# EAGLE library part SIM900 (library sim900R)
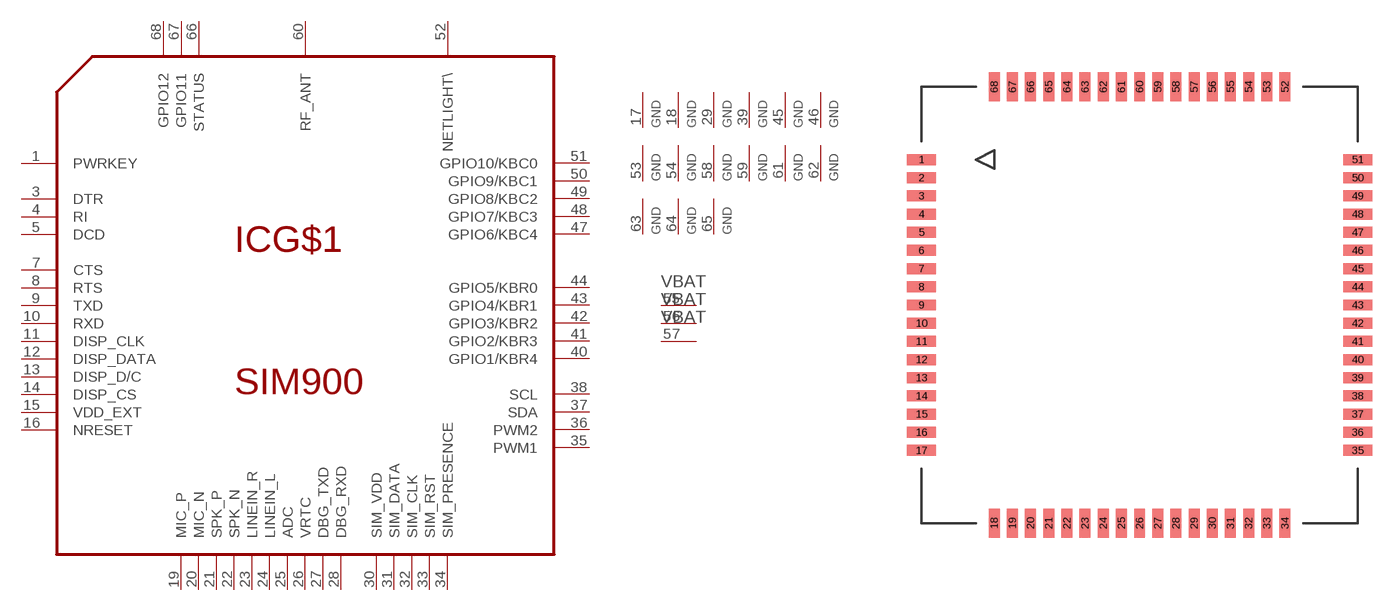
[diagram p0: symbol with the pads of SIM900; footprint SIM900]

Designator prefix IC; gates G$1=SIM900 GND@1=GND GND@2=GND GND@3=GND GND@4=GND GND@5=GND GND@6=GND GND@7=GND GND@8=GND GND@9=GND GND@10=GND GND@11=GND GND@12=GND GND@13=GND GND@14=GND GND@15=GND VBAT@1=VBAT VBAT@2=VBAT VBAT@3=VBAT

## SIM900  [SIM900]
1  G$1:PWRKEY
3  G$1:DTR
4  G$1:RI
5  G$1:DCD
7  G$1:CTS
8  G$1:RTS
9  G$1:TXD
10  G$1:RXD
11  G$1:DISP_CLK
12  G$1:DISP_DATA
13  G$1:DISP_D/C
14  G$1:DISP_CS
15  G$1:VDD_EXT
16  G$1:NRESET
17  GND@1:GND  pwr
18  GND@2:GND  pwr
19  G$1:MIC_P
20  G$1:MIC_N
21  G$1:SPK_P
22  G$1:SPK_N
23  G$1:LINEIN_R
24  G$1:LINEIN_L
25  G$1:ADC
26  G$1:VRTC
27  G$1:DBG_TXD
28  G$1:DBG_RXD
29  GND@3:GND  pwr
30  G$1:SIM_VDD
31  G$1:SIM_DATA
32  G$1:SIM_CLK
33  G$1:SIM_RST
34  G$1:SIM_PRESENCE
35  G$1:PWM1
36  G$1:PWM2
37  G$1:SDA
38  G$1:SCL
39  GND@4:GND  pwr
40  G$1:GPIO1/KBR4
41  G$1:GPIO2/KBR3
42  G$1:GPIO3/KBR2
43  G$1:GPIO4/KBR1
44  G$1:GPIO5/KBR0
45  GND@5:GND  pwr
46  GND@6:GND  pwr
47  G$1:GPIO6/KBC4
48  G$1:GPIO7/KBC3
49  G$1:GPIO8/KBC2
50  G$1:GPIO9/KBC1
51  G$1:GPIO10/KBC0
52  G$1:NETLIGHT\
53  GND@7:GND  pwr
54  GND@8:GND  pwr
55  VBAT@1:VBAT  pwr
56  VBAT@2:VBAT  pwr
57  VBAT@3:VBAT  pwr
58  GND@9:GND  pwr
59  GND@10:GND  pwr
60  G$1:RF_ANT
61  GND@11:GND  pwr
62  GND@12:GND  pwr
63  GND@13:GND  pwr
64  GND@14:GND  pwr
65  GND@15:GND  pwr
66  G$1:STATUS
67  G$1:GPIO11
68  G$1:GPIO12

## Footprint SIM900 (pad centres in mm)
smd 1.6 x 0.6: 1 -12,8; 2 -12,7; 3 -12,6; 4 -12,5; 5 -12,4; 6 -12,3; 7 -12,2; 8 -12,1; 9 -12,0; 10 -12,-1; 11 -12,-2; 12 -12,-3; 13 -12,-4; 14 -12,-5; 15 -12,-6; 16 -12,-7; 17 -12,-8; 35 12,-8; 36 12,-7; 37 12,-6; 38 12,-5; 39 12,-4; 40 12,-3; 41 12,-2; 42 12,-1; 43 12,0; 44 12,1; 45 12,2; 46 12,3; 47 12,4; 48 12,5; 49 12,6; 50 12,7; 51 12,8
smd 0.6 x 1.6: 18 -8,-12; 19 -7,-12; 20 -6,-12; 21 -5,-12; 22 -4,-12; 23 -3,-12; 24 -2,-12; 25 -1,-12; 26 0,-12; 27 1,-12; 28 2,-12; 29 3,-12; 30 4,-12; 31 5,-12; 32 6,-12; 33 7,-12; 34 8,-12; 52 8,12; 53 7,12; 54 6,12; 55 5,12; 56 4,12; 57 3,12; 58 2,12; 59 1,12; 60 0,12; 61 -1,12; 62 -2,12; 63 -3,12; 64 -4,12; 65 -5,12; 66 -6,12; 67 -7,12; 68 -8,12